# Altium footprint library header 2x4.PcbLib: 1 footprints
Each footprint in its own frame and in the unit in brackets; x right, y up, seen from the top. Pads: shape width x height; smd on the part's side, far side on the other; paste and mask are expansions set on the pad; w line width, h text height; cw(c..) or ccw(c..) is an arc to the next point about the centre after c.
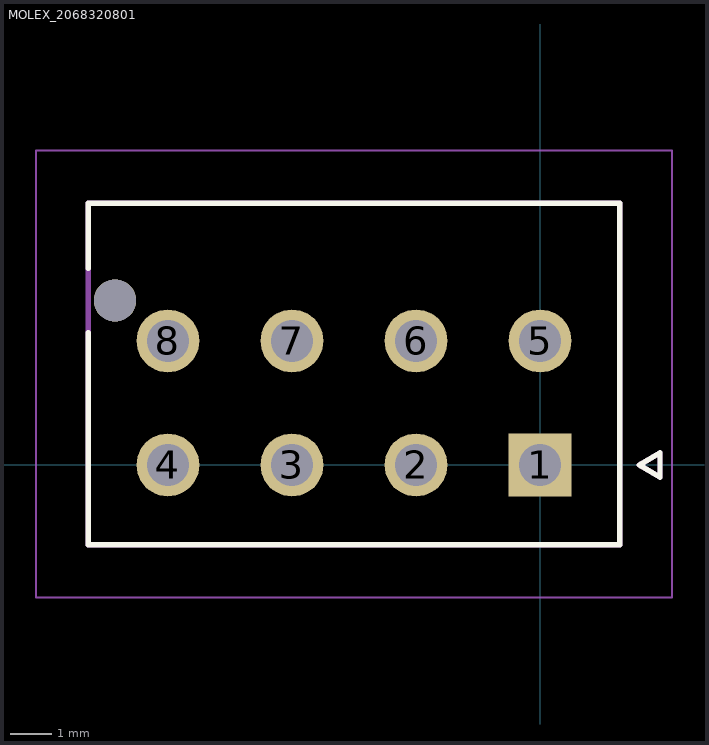
[diagram p0: the footprint, top view; thin cyan lines are the x and y axes]

## MOLEX_2068320801 [mm]
height 9.91
pads (9):
  rect 1.52x1.52 / inner round 1.52 / far side rect 1.52x1.52 hole 1.02 mask+0.076: 1(0,0)
  round 1.52 hole 1.02 mask+0.076: 2(-3,0) 3(-6,0) 4(-9,0) 5(0,3) 6(-3,3) 7(-6,3) 8(-9,3)
  round 1.02 hole 1.02 unplated mask+0.076: ""(-10.28,3.98)
Top Overlay:
  lines w0.127: -10.925,3.2 -10.925,-1.93 1.925,-1.93 1.925,6.33 -3.8,6.33 -5.2,6.33 -10.925,6.33 -10.925,4.75 ; 2.4,0 2.9,0.3 2.9,-0.3 2.4,0
Assembly Top:
  lines w0.127: -10.925,-1.93 -10.925,6.33 -5.2,6.33 -3.8,6.33 1.925,6.33 1.925,-1.93 -10.925,-1.93 ; 2.4,0 2.9,0.3 2.9,-0.3 2.4,0
  text "NPTH D1.02" at -11.5,-8 h0.5
  text "PTH D1.02 +/- 0.05" at -11.5,-7 h0.5
Courtyard Top:
  lines w0.05: -12.195,-3.2 -12.195,7.6 3.195,7.6 3.195,-3.2 -12.195,-3.2
3D body "header 2x4.STEP": height 9.91, standoff -3.18, extent -10.87,-3.302 1.98,4.958